# Altium footprint library Button.PcbLib: 1 footprints
Each footprint in its own frame and in the unit in brackets; x right, y up, seen from the top. Pads: shape width x height; smd on the part's side, far side on the other; paste and mask are expansions set on the pad; w line width, h text height; cw(c..) or ccw(c..) is an arc to the next point about the centre after c.
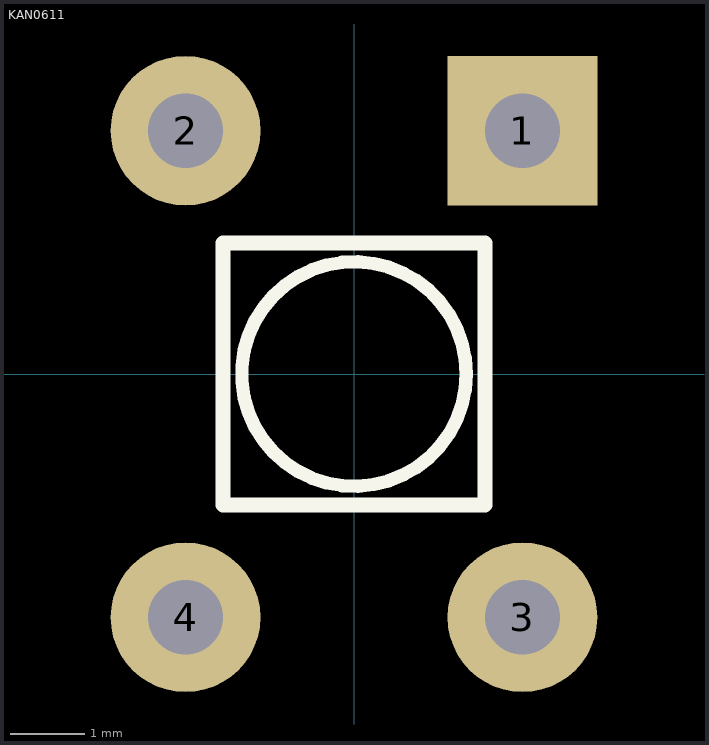
[diagram p0: the footprint, top view; thin cyan lines are the x and y axes]

## KAN0611 [mm] "Кнопка тактовая, DIP, 6.5х4.5, h=5.0 мм, 13.0 мм"
pads (4):
  rect 2x2 hole 1: 1(2.25,3.25)
  round 2 hole 1: 2(-2.25,3.25) 3(2.25,-3.25) 4(-2.25,-3.25)
Top Overlay:
  circle w0.178: c0,0 r1.5
  lines w0.2: -1.75,-1.75 -1.75,1.75 1.75,1.75 1.75,-1.75 -1.75,-1.75